# Altium footprint library Passive.PcbLib: 6 footprints
Each footprint in its own frame and in the unit in brackets; x right, y up, seen from the top. Pads: shape width x height; smd on the part's side, far side on the other; paste and mask are expansions set on the pad; w line width, h text height; cw(c..) or ccw(c..) is an arc to the next point about the centre after c.
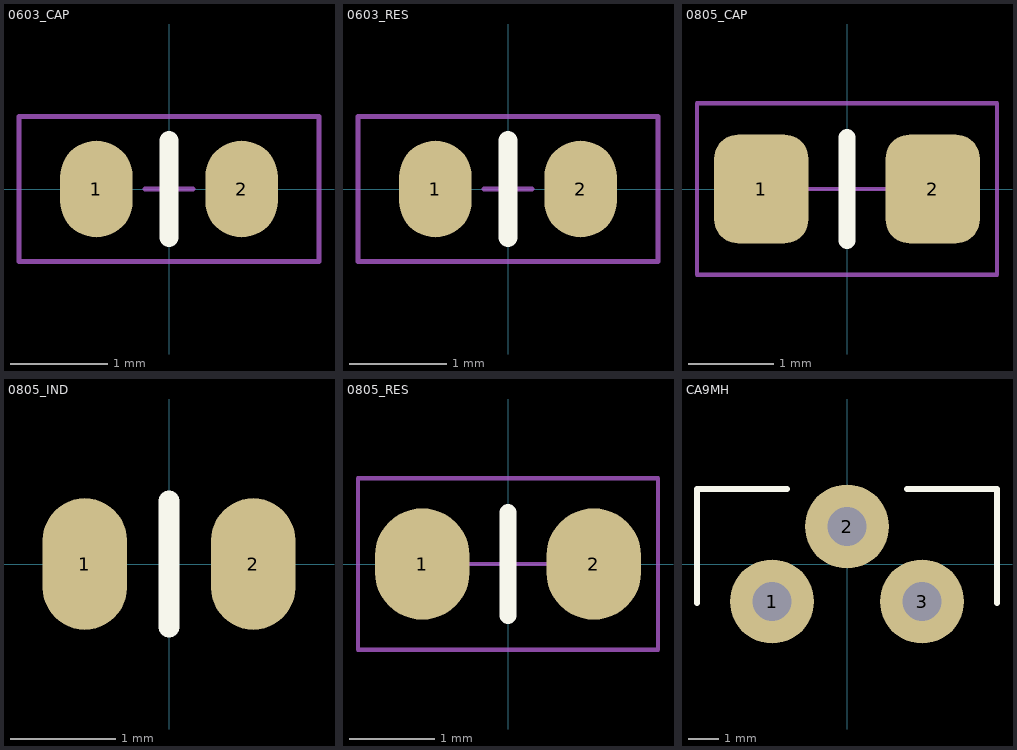
[diagram p0: the footprints below, top view; thin cyan lines are the x and y axes]

## 0603_CAP [mm]
pads (2):
  oval 0.75x1 smd paste+0 mask+0.1: 1(-0.75,0) 2(0.75,0)
Top Overlay:
  lines w0.2: 0,-0.5 0,0.5
Mechanical 15:
  lines w0.05: -0.25,0 0.25,0 ; 0,-0.25 0,0.25 ; -1.55,-0.75 1.55,-0.75 1.55,0.75 -1.55,0.75 -1.55,-0.75
3D body: height 0.4, standoff 0, extent -0.8,-0.4 0.8,0.4

## 0603_RES [mm]
pads (2):
  oval 0.75x1 smd mask+0.1: 1(-0.75,0) 2(0.75,0)
Top Overlay:
  lines w0.2: 0,-0.5 0,0.5
Mechanical 15:
  lines w0.05: -0.25,0 0.25,0 ; 0,-0.25 0,0.25 ; -1.55,-0.75 -1.55,0.75 1.55,0.75 1.55,-0.75 -1.55,-0.75
3D body "res0603r.STEP": height 0.47, standoff 0.02, extent -0.8,-0.4 0.8,0.4

## 0805_CAP [mm]
pads (2):
  rrect50% 1.1x1.27 smd mask+0.1: 1(-1,0) 2(1,0)
Top Overlay:
  lines w0.2: 0,-0.6 0,0.6
Mechanical 15:
  lines w0.05: -0.5,0 0.5,0 ; 0,-0.5 0,0.5 ; -1.75,-1 -1.75,1 1.75,1 1.75,-1 -1.75,-1
3D body: height 0.7, standoff 0, extent -1,-0.625 1,0.625

## 0805_IND [mm]
pads (2):
  oval 0.8x1.25 smd mask+0.1: 1(-0.8,0) 2(0.8,0)
Top Overlay:
  lines w0.2: 0,-0.6 0,0.6
3D body "User Library-RF Wirewound Chip Inductor.step": height 1.22, standoff 0.01, extent -1.01,-0.625 0.99,0.625

## 0805_RES [mm]
pads (2):
  oval 1.1x1.3 smd mask+0.1: 1(-1,0) 2(1,0)
Top Overlay:
  lines w0.2: 0,-0.6 0,0.6
Mechanical 15:
  lines w0.05: -0.5,0 0.5,0 ; 0,-0.5 0,0.5 ; -1.75,-1 1.75,-1 1.75,1 -1.75,1 -1.75,-1
3D body "res0805.STEP": height 0.52, standoff 0.02, extent -1,-0.625 1,0.625

## CA9MH [mm]
pads (3):
  round 2.8 hole 1.3: 1(-2.5,-1.25) 2(0,1.25) 3(2.5,-1.25)
Top Overlay:
  lines w0.2: -5,-1.3 -5,2.5 -2,2.5 ; 2,2.5 5,2.5 5,-1.3
3D body "ACP_CA9.STEP": height 11.82, standoff -3.48, extent -5,-11.8 5,3